# EAGLE library part LCM1602DSL (library #PaJa_displeje)
LCD - 2x16 + LED (TME - LCM1602DSL)
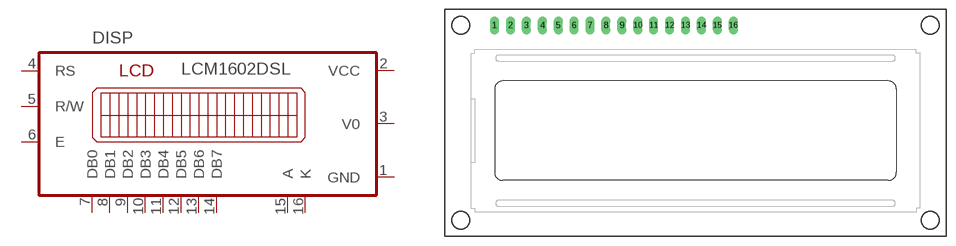
[diagram p7: symbol with the pads of LCM1602DSL; footprint LCM1602DSL]

Designator prefix DISP

## LCM1602DSL  [LCM1602DSL]
1  GND  pwr
2  VCC  pwr
3  V0  pwr
4  RS  in
5  R/W  in
6  E  in
7  DB0  pas
8  DB1  pas
9  DB2  pas
10  DB3  pas
11  DB4  pas
12  DB5  pas
13  DB6  pas
14  DB7  pas
15  A  pas
16  K  pas

## Footprint LCM1602DSL (pad centres in mm)
drill 0.813 pad 1.422 long: 1 -32.068,16.828; 2 -29.527,16.828; 3 -26.988,16.828; 4 -24.448,16.828; 5 -21.907,16.828; 6 -19.367,16.828; 7 -16.828,16.828; 8 -14.287,16.828; 9 -11.748,16.828; 10 -9.207,16.828; 11 -6.668,16.828; 12 -4.128,16.828; 13 -1.587,16.828; 14 0.953,16.828; 15 3.493,16.828; 16 6.032,16.828
hole 2.8 at -37.465,-14.287
hole 2.8 at 37.465,-14.287
hole 2.8 at 37.465,16.828
hole 2.8 at -37.465,16.828